# Altium schematic symbol library SCH - POWER - LINEAR VREG - TI TPS79301-Q1_DBV_6.SchLib: 1 symbol
Pins are listed as number, name and electrical type; pins without a type are passive.

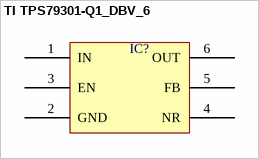
[diagram p0: symbol TI TPS79301-Q1_DBV_6]

## TI TPS79301-Q1_DBV_6
designator IC?  (value not drawn)
pins: 1 IN, 2 GND, 3 EN, 4 NR, 5 FB, 6 OUT